# EAGLE library part PCA9615DPJ (library PCA9615DPJ)
NXP - PCA9615DPJ - BUFFER, DIFFERENTIAL I2C-BUS, TSSOP-10 Source: Datasheet <https://rs.componentsearchengine.com/Datasheets/2/PCA9615DPJ.pdf>
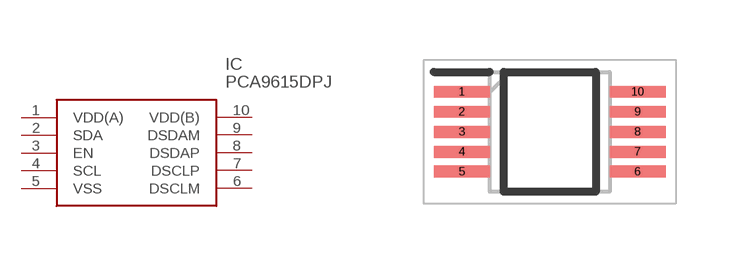
[diagram p0: symbol with the pads of SOP50P490X110-10N; footprint SOP50P490X110-10N]

Designator prefix IC

## PCA9615DPJ (Description: NXP - PCA9615DPJ - BUFFER, DIFFERENTIAL I2C-BUS, TSSOP-10; Height: 1.1mm; Manufacturer_Name: Nexperia; Manufacturer_Part_Number: PCA9615DPJ; Mouser_Part_Number: 771-PCA9615DPJ; Mouser_Price-Stock: https://www.mouser.com/Search/Refine.aspx?Keyword=771-PCA9615DPJ)  [SOP50P490X110-10N]
1  VDD(A)  pwr
2  SDA
3  EN  in
4  SCL
5  VSS  pwr
6  DSCLM
7  DSCLP
8  DSDAP
9  DSDAM
10  VDD(B)  pwr

## Footprint SOP50P490X110-10N (pad centres in mm)
TSSOP10 (SOT552-1)
smd 1.4 x 0.3: 1 -2.2,1; 2 -2.2,0.5; 3 -2.2,0; 4 -2.2,-0.5; 5 -2.2,-1; 6 2.2,-1; 7 2.2,-0.5; 8 2.2,0; 9 2.2,0.5; 10 2.2,1